# Altium footprint library 2019-06-30_11-57-30.PcbLib: 3 footprints
Each footprint in its own frame and in the unit in brackets; x right, y up, seen from the top. Pads: shape width x height; smd on the part's side, far side on the other; paste and mask are expansions set on the pad; w line width, h text height; cw(c..) or ccw(c..) is an arc to the next point about the centre after c.
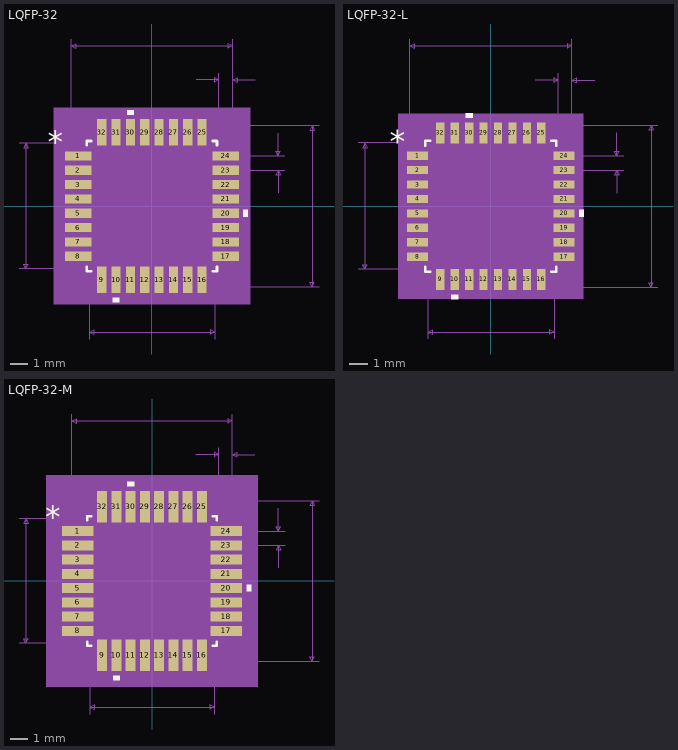
[diagram p0: the footprints below, top view; thin cyan lines are the x and y axes]

## LQFP-32 [mil]
pads (32):
  rect 58x20 smd paste+0 mask+0: 1(-162,110.24) 2(-162,78.74) 3(-162,47.24) 4(-162,15.75) 5(-162,-15.75) 6(-162,-47.24) 7(-162,-78.74) 8(-162,-110.24) 17(162,-110.24) 18(162,-78.74) 19(162,-47.24) 20(162,-15.75) 21(162,15.75) 22(162,47.24) 23(162,78.74) 24(162,110.24)
  rect 20x58 smd paste+0 mask+0: 9(-110.24,-162) 10(-78.74,-162) 11(-47.24,-162) 12(-15.75,-162) 13(15.75,-162) 14(47.24,-162) 15(78.74,-162) 16(110.24,-162) 25(110.24,162) 26(78.74,162) 27(47.24,162) 28(15.75,162) 29(-15.75,162) 30(-47.24,162) 31(-78.74,162) 32(-110.24,162)
Top Overlay:
  region: -71.24,-201 -86.24,-201 -86.24,-211 -71.24,-211
  region: 201,-8.25 211,-8.25 211,-23.25 201,-23.25
  region: -39.74,201 -54.74,201 -54.74,211 -39.74,211
  lines w6: -143,-133.34 -143,-143 -133.34,-143 ; -143,133.34 -143,143 -133.34,143 ; 133.34,-143 143,-143 143,-133.34 ; 133.34,143 143,143 143,133.34
  text "*" at -228.5,115.98 h50
Mechanical 5:
  region: 216,-216 -216,-216 -216,216 216,216
Mechanical 7:
  lines w1: -292,-138 -110.24,-138 ; -292,138 -110.24,138 ; -177,110.24 -177,367 ; -138,-292 -138,-110.24 ; 97,277 147,277 ; 110.24,-177 367,-177 ; 110.24,177 367,177 ; 138,-292 138,-110.24 ; 147,110.24 147,292 ; 162,78.74 292,78.74 ; 162,110.24 292,110.24 ; 177,292 177,110.24 177,367 ; 227,277 177,277 ; 277,28.74 277,78.74 ; 277,160.24 277,110.24 ; -277,-138 -277,138 ; -277,-138 -282,-128 -272,-128 -277,-138 ; -277,138 -282,128 -272,128 -277,138 ; -177,352 177,352 ; -177,352 -167,357 -167,347 -177,352 ; -138,-277 138,-277 ; -138,-277 -128,-272 -128,-282 -138,-277 ; 138,-277 128,-272 128,-282 138,-277 ; 147,277 137,282 137,272 147,277 ; 177,277 187,282 187,272 177,277 ; 177,352 167,357 167,347 177,352 ; 277,78.74 272,68.74 282,68.74 277,78.74 ; 277,110.24 272,120.24 282,120.24 277,110.24 ; 352,-177 352,177 ; 352,-177 347,-167 357,-167 352,-177 ; 352,177 347,167 357,167 352,177
  text "Default Horiz Padstyle: RX20Y58D0T" at -425,-427 h50
  text "Default Vert Padstyle: RX20Y58D0T" at -412.5,-487 h50
  text "Alt 1 Padstyle: OX60Y90D30P" at -337.5,-667 h50
  text "Alt 2 Padstyle: OX90Y60D30P" at -337.5,-727 h50
  text "0.031in/0.8mm" at 297,81.99 h25
  text "0.03in/0.762mm" at 74.5,297 h25
  text "0.354in/8.992mm" at -93.75,372 h25
  text "0.276in/7.01mm" at -87.5,-322 h25
  text "0.276in/7.01mm" at -472,-12.5 h25
  text "0.354in/8.992mm" at 372,-12.5 h25
Mechanical 13:
  lines w1: -138,88 -88,138 ; -138,-138 138,-138 ; -138,-138 -138,138 ; -138,-138 -138,-138 ; -138,138 138,138 ; -138,138 -138,138 ; 138,-138 138,-138 ; 138,-138 138,138 ; 138,138 138,138 ; -177,-119.24 -177,-101.24 -138,-101.24 -138,-119.24 -177,-119.24 ; -177,-87.74 -177,-69.74 -138,-69.74 -138,-87.74 -177,-87.74 ; -177,-56.24 -177,-38.24 -138,-38.24 -138,-56.24 -177,-56.24 ; -177,-24.75 -177,-6.75 -138,-6.75 -138,-24.75 -177,-24.75 ; -177,6.75 -177,24.75 -138,24.75 -138,6.75 -177,6.75 ; -177,38.24 -177,56.24 -138,56.24 -138,38.24 -177,38.24 ; -177,69.74 -177,87.74 -138,87.74 -138,69.74 -177,69.74 ; -177,101.24 -177,119.24 -138,119.24 -138,101.24 -177,101.24 ; -119.24,-177 -119.24,-138 -101.24,-138 -101.24,-177 -119.24,-177 ; -119.24,138 -101.24,138 -101.24,177 -119.24,177 -119.24,138 ; -87.74,-177 -87.74,-138 -69.74,-138 -69.74,-177 -87.74,-177 ; -87.74,138 -69.74,138 -69.74,177 -87.74,177 -87.74,138 ; -56.24,-177 -56.24,-138 -38.24,-138 -38.24,-177 -56.24,-177 ; -56.24,138 -38.24,138 -38.24,177 -56.24,177 -56.24,138 ; -24.75,-177 -24.75,-138 -6.75,-138 -6.75,-177 -24.75,-177 ; -24.75,138 -6.75,138 -6.75,177 -24.75,177 -24.75,138 ; 6.75,-177 6.75,-138 24.75,-138 24.75,-177 6.75,-177 ; 6.75,138 24.75,138 24.75,177 6.75,177 6.75,138 ; 38.24,-177 38.24,-138 56.24,-138 56.24,-177 38.24,-177 ; 38.24,138 56.24,138 56.24,177 38.24,177 38.24,138 ; 69.74,-177 69.74,-138 87.74,-138 87.74,-177 69.74,-177 ; 69.74,138 87.74,138 87.74,177 69.74,177 69.74,138 ; 101.24,-177 101.24,-138 119.24,-138 119.24,-177 101.24,-177 ; 101.24,138 119.24,138 119.24,177 101.24,177 101.24,138 ; 138,-119.24 138,-101.24 177,-101.24 177,-119.24 138,-119.24 ; 138,-87.74 138,-69.74 177,-69.74 177,-87.74 138,-87.74 ; 138,-56.24 138,-38.24 177,-38.24 177,-56.24 138,-56.24 ; 138,-24.75 138,-6.75 177,-6.75 177,-24.75 138,-24.75 ; 138,6.75 138,24.75 177,24.75 177,6.75 138,6.75 ; 138,38.24 138,56.24 177,56.24 177,38.24 138,38.24 ; 138,69.74 138,87.74 177,87.74 177,69.74 138,69.74 ; 138,101.24 138,119.24 177,119.24 177,101.24 138,101.24
  text "*" at -135.5,100.98 h50
Mechanical 15:
  region: -130.24,-148 -148,-148 -148,-130.24 -201,-130.24 -201,130.24 -148,130.24 -148,148 -130.24,148 -130.24,201 130.24,201 130.24,148 148,148 148,130.24 201,130.24 201,-130.24 148,-130.24 148,-148 130.24,-148 130.24,-201 -130.24,-201
  lines w6: -201,-130.24 -148,-130.24 -148,-148 -130.24,-148 -130.24,-201 130.24,-201 130.24,-148 148,-148 148,-130.24 201,-130.24 201,130.24 148,130.24 148,148 130.24,148 130.24,201 -130.24,201 -130.24,148 -148,148 -148,130.24 -201,130.24 -201,-130.24
3D body: height 10, standoff 0, extent 0,0 10,10

## LQFP-32-L [mil]
pads (32):
  rect 46x18 smd paste+0 mask+0: 1(-160,110.24) 2(-160,78.74) 3(-160,47.24) 4(-160,15.75) 5(-160,-15.75) 6(-160,-47.24) 7(-160,-78.74) 8(-160,-110.24) 17(160,-110.24) 18(160,-78.74) 19(160,-47.24) 20(160,-15.75) 21(160,15.75) 22(160,47.24) 23(160,78.74) 24(160,110.24)
  rect 18x46 smd paste+0 mask+0: 9(-110.24,-160) 10(-78.74,-160) 11(-47.24,-160) 12(-15.75,-160) 13(15.75,-160) 14(47.24,-160) 15(78.74,-160) 16(110.24,-160) 25(110.24,160) 26(78.74,160) 27(47.24,160) 28(15.75,160) 29(-15.75,160) 30(-47.24,160) 31(-78.74,160) 32(-110.24,160)
Top Overlay:
  region: -71.24,-193 -86.24,-193 -86.24,-203 -71.24,-203
  region: 193,-8.25 203,-8.25 203,-23.25 193,-23.25
  region: -39.74,193 -54.74,193 -54.74,203 -39.74,203
  lines w6: -143,-132.34 -143,-143 -132.34,-143 ; -143,132.34 -143,143 -132.34,143 ; 132.34,-143 143,-143 143,-132.34 ; 132.34,143 143,143 143,132.34
  text "*" at -220.5,115.98 h50
Mechanical 5:
  region: 202,-202 -202,-202 -202,202 202,202
Mechanical 7:
  lines w1: -290,-138 -110.24,-138 ; -290,138 -110.24,138 ; -177,110.24 -177,365 ; -138,-290 -138,-110.24 ; 97,275 147,275 ; 110.24,-177 365,-177 ; 110.24,177 365,177 ; 138,-290 138,-110.24 ; 147,110.24 147,290 ; 160,78.74 290,78.74 ; 160,110.24 290,110.24 ; 177,290 177,110.24 177,365 ; 227,275 177,275 ; 275,28.74 275,78.74 ; 275,160.24 275,110.24 ; -275,-138 -275,138 ; -275,-138 -280,-128 -270,-128 -275,-138 ; -275,138 -280,128 -270,128 -275,138 ; -177,350 177,350 ; -177,350 -167,355 -167,345 -177,350 ; -138,-275 138,-275 ; -138,-275 -128,-270 -128,-280 -138,-275 ; 138,-275 128,-270 128,-280 138,-275 ; 147,275 137,280 137,270 147,275 ; 177,275 187,280 187,270 177,275 ; 177,350 167,355 167,345 177,350 ; 275,78.74 270,68.74 280,68.74 275,78.74 ; 275,110.24 270,120.24 280,120.24 275,110.24 ; 350,-177 350,177 ; 350,-177 345,-167 355,-167 350,-177 ; 350,177 345,167 355,167 350,177
  text "Default Horiz Padstyle: RX18Y46D0T" at -425,-425 h50
  text "Default Vert Padstyle: RX18Y46D0T" at -412.5,-485 h50
  text "Alt 1 Padstyle: OX60Y90D30P" at -337.5,-665 h50
  text "Alt 2 Padstyle: OX90Y60D30P" at -337.5,-725 h50
  text "0.031in/0.8mm" at 295,81.99 h25
  text "0.03in/0.762mm" at 74.5,295 h25
  text "0.354in/8.992mm" at -93.75,370 h25
  text "0.276in/7.01mm" at -87.5,-320 h25
  text "0.276in/7.01mm" at -470,-12.5 h25
  text "0.354in/8.992mm" at 370,-12.5 h25
Mechanical 13:
  lines w1: -138,88 -88,138 ; -138,-138 138,-138 ; -138,-138 -138,138 ; -138,-138 -138,-138 ; -138,138 138,138 ; -138,138 -138,138 ; 138,-138 138,-138 ; 138,-138 138,138 ; 138,138 138,138 ; -177,-119.24 -177,-101.24 -138,-101.24 -138,-119.24 -177,-119.24 ; -177,-87.74 -177,-69.74 -138,-69.74 -138,-87.74 -177,-87.74 ; -177,-56.24 -177,-38.24 -138,-38.24 -138,-56.24 -177,-56.24 ; -177,-24.75 -177,-6.75 -138,-6.75 -138,-24.75 -177,-24.75 ; -177,6.75 -177,24.75 -138,24.75 -138,6.75 -177,6.75 ; -177,38.24 -177,56.24 -138,56.24 -138,38.24 -177,38.24 ; -177,69.74 -177,87.74 -138,87.74 -138,69.74 -177,69.74 ; -177,101.24 -177,119.24 -138,119.24 -138,101.24 -177,101.24 ; -119.24,-177 -119.24,-138 -101.24,-138 -101.24,-177 -119.24,-177 ; -119.24,138 -101.24,138 -101.24,177 -119.24,177 -119.24,138 ; -87.74,-177 -87.74,-138 -69.74,-138 -69.74,-177 -87.74,-177 ; -87.74,138 -69.74,138 -69.74,177 -87.74,177 -87.74,138 ; -56.24,-177 -56.24,-138 -38.24,-138 -38.24,-177 -56.24,-177 ; -56.24,138 -38.24,138 -38.24,177 -56.24,177 -56.24,138 ; -24.75,-177 -24.75,-138 -6.75,-138 -6.75,-177 -24.75,-177 ; -24.75,138 -6.75,138 -6.75,177 -24.75,177 -24.75,138 ; 6.75,-177 6.75,-138 24.75,-138 24.75,-177 6.75,-177 ; 6.75,138 24.75,138 24.75,177 6.75,177 6.75,138 ; 38.24,-177 38.24,-138 56.24,-138 56.24,-177 38.24,-177 ; 38.24,138 56.24,138 56.24,177 38.24,177 38.24,138 ; 69.74,-177 69.74,-138 87.74,-138 87.74,-177 69.74,-177 ; 69.74,138 87.74,138 87.74,177 69.74,177 69.74,138 ; 101.24,-177 101.24,-138 119.24,-138 119.24,-177 101.24,-177 ; 101.24,138 119.24,138 119.24,177 101.24,177 101.24,138 ; 138,-119.24 138,-101.24 177,-101.24 177,-119.24 138,-119.24 ; 138,-87.74 138,-69.74 177,-69.74 177,-87.74 138,-87.74 ; 138,-56.24 138,-38.24 177,-38.24 177,-56.24 138,-56.24 ; 138,-24.75 138,-6.75 177,-6.75 177,-24.75 138,-24.75 ; 138,6.75 138,24.75 177,24.75 177,6.75 138,6.75 ; 138,38.24 138,56.24 177,56.24 177,38.24 138,38.24 ; 138,69.74 138,87.74 177,87.74 177,69.74 138,69.74 ; 138,101.24 138,119.24 177,119.24 177,101.24 138,101.24
  text "*" at -135.5,100.98 h50
Mechanical 15:
  region: -123.24,-142 -142,-142 -142,-123.24 -187,-123.24 -187,123.24 -142,123.24 -142,142 -123.24,142 -123.24,187 123.24,187 123.24,142 142,142 142,123.24 187,123.24 187,-123.24 142,-123.24 142,-142 123.24,-142 123.24,-187 -123.24,-187
  lines w6: -187,-123.24 -142,-123.24 -142,-142 -123.24,-142 -123.24,-187 123.24,-187 123.24,-142 142,-142 142,-123.24 187,-123.24 187,123.24 142,123.24 142,142 123.24,142 123.24,187 -123.24,187 -123.24,142 -142,142 -142,123.24 -187,123.24 -187,-123.24
3D body: height 10, standoff 0, extent 0,0 10,10

## LQFP-32-M [mil]
pads (32):
  rect 70x22 smd paste+0 mask+0: 1(-164,110.24) 2(-164,78.74) 3(-164,47.24) 4(-164,15.75) 5(-164,-15.75) 6(-164,-47.24) 7(-164,-78.74) 8(-164,-110.24) 17(164,-110.24) 18(164,-78.74) 19(164,-47.24) 20(164,-15.75) 21(164,15.75) 22(164,47.24) 23(164,78.74) 24(164,110.24)
  rect 22x70 smd paste+0 mask+0: 9(-110.24,-164) 10(-78.74,-164) 11(-47.24,-164) 12(-15.75,-164) 13(15.75,-164) 14(47.24,-164) 15(78.74,-164) 16(110.24,-164) 25(110.24,164) 26(78.74,164) 27(47.24,164) 28(15.75,164) 29(-15.75,164) 30(-47.24,164) 31(-78.74,164) 32(-110.24,164)
Top Overlay:
  region: -71.24,-209 -86.24,-209 -86.24,-219 -71.24,-219
  region: 209,-8.25 219,-8.25 219,-23.25 209,-23.25
  region: -39.74,209 -54.74,209 -54.74,219 -39.74,219
  lines w6: -143,-134.34 -143,-143 -134.34,-143 ; -143,134.34 -143,143 -134.34,143 ; 134.34,-143 143,-143 143,-134.34 ; 134.34,143 143,143 143,134.34
  text "*" at -236.5,115.98 h50
Mechanical 5:
  region: 234,-234 -234,-234 -234,234 234,234
Mechanical 7:
  lines w1: -294,-138 -110.24,-138 ; -294,138 -110.24,138 ; -177,110.24 -177,369 ; -138,-294 -138,-110.24 ; 97,279 147,279 ; 110.24,-177 369,-177 ; 110.24,177 369,177 ; 138,-294 138,-110.24 ; 147,110.24 147,294 ; 164,78.74 294,78.74 ; 164,110.24 294,110.24 ; 177,294 177,110.24 177,369 ; 227,279 177,279 ; 279,28.74 279,78.74 ; 279,160.24 279,110.24 ; -279,-138 -279,138 ; -279,-138 -284,-128 -274,-128 -279,-138 ; -279,138 -284,128 -274,128 -279,138 ; -177,354 177,354 ; -177,354 -167,359 -167,349 -177,354 ; -138,-279 138,-279 ; -138,-279 -128,-274 -128,-284 -138,-279 ; 138,-279 128,-274 128,-284 138,-279 ; 147,279 137,284 137,274 147,279 ; 177,279 187,284 187,274 177,279 ; 177,354 167,359 167,349 177,354 ; 279,78.74 274,68.74 284,68.74 279,78.74 ; 279,110.24 274,120.24 284,120.24 279,110.24 ; 354,-177 354,177 ; 354,-177 349,-167 359,-167 354,-177 ; 354,177 349,167 359,167 354,177
  text "Default Horiz Padstyle: RX22Y70D0T" at -425,-429 h50
  text "Default Vert Padstyle: RX22Y70D0T" at -412.5,-489 h50
  text "Alt 1 Padstyle: OX60Y90D30P" at -337.5,-669 h50
  text "Alt 2 Padstyle: OX90Y60D30P" at -337.5,-729 h50
  text "0.031in/0.8mm" at 299,81.99 h25
  text "0.03in/0.762mm" at 74.5,299 h25
  text "0.354in/8.992mm" at -93.75,374 h25
  text "0.276in/7.01mm" at -87.5,-324 h25
  text "0.276in/7.01mm" at -474,-12.5 h25
  text "0.354in/8.992mm" at 374,-12.5 h25
Mechanical 13:
  lines w1: -138,88 -88,138 ; -138,-138 138,-138 ; -138,-138 -138,138 ; -138,-138 -138,-138 ; -138,138 138,138 ; -138,138 -138,138 ; 138,-138 138,-138 ; 138,-138 138,138 ; 138,138 138,138 ; -177,-119.24 -177,-101.24 -138,-101.24 -138,-119.24 -177,-119.24 ; -177,-87.74 -177,-69.74 -138,-69.74 -138,-87.74 -177,-87.74 ; -177,-56.24 -177,-38.24 -138,-38.24 -138,-56.24 -177,-56.24 ; -177,-24.75 -177,-6.75 -138,-6.75 -138,-24.75 -177,-24.75 ; -177,6.75 -177,24.75 -138,24.75 -138,6.75 -177,6.75 ; -177,38.24 -177,56.24 -138,56.24 -138,38.24 -177,38.24 ; -177,69.74 -177,87.74 -138,87.74 -138,69.74 -177,69.74 ; -177,101.24 -177,119.24 -138,119.24 -138,101.24 -177,101.24 ; -119.24,-177 -119.24,-138 -101.24,-138 -101.24,-177 -119.24,-177 ; -119.24,138 -101.24,138 -101.24,177 -119.24,177 -119.24,138 ; -87.74,-177 -87.74,-138 -69.74,-138 -69.74,-177 -87.74,-177 ; -87.74,138 -69.74,138 -69.74,177 -87.74,177 -87.74,138 ; -56.24,-177 -56.24,-138 -38.24,-138 -38.24,-177 -56.24,-177 ; -56.24,138 -38.24,138 -38.24,177 -56.24,177 -56.24,138 ; -24.75,-177 -24.75,-138 -6.75,-138 -6.75,-177 -24.75,-177 ; -24.75,138 -6.75,138 -6.75,177 -24.75,177 -24.75,138 ; 6.75,-177 6.75,-138 24.75,-138 24.75,-177 6.75,-177 ; 6.75,138 24.75,138 24.75,177 6.75,177 6.75,138 ; 38.24,-177 38.24,-138 56.24,-138 56.24,-177 38.24,-177 ; 38.24,138 56.24,138 56.24,177 38.24,177 38.24,138 ; 69.74,-177 69.74,-138 87.74,-138 87.74,-177 69.74,-177 ; 69.74,138 87.74,138 87.74,177 69.74,177 69.74,138 ; 101.24,-177 101.24,-138 119.24,-138 119.24,-177 101.24,-177 ; 101.24,138 119.24,138 119.24,177 101.24,177 101.24,138 ; 138,-119.24 138,-101.24 177,-101.24 177,-119.24 138,-119.24 ; 138,-87.74 138,-69.74 177,-69.74 177,-87.74 138,-87.74 ; 138,-56.24 138,-38.24 177,-38.24 177,-56.24 138,-56.24 ; 138,-24.75 138,-6.75 177,-6.75 177,-24.75 138,-24.75 ; 138,6.75 138,24.75 177,24.75 177,6.75 138,6.75 ; 138,38.24 138,56.24 177,56.24 177,38.24 138,38.24 ; 138,69.74 138,87.74 177,87.74 177,69.74 138,69.74 ; 138,101.24 138,119.24 177,119.24 177,101.24 138,101.24
  text "*" at -135.5,100.98 h50
Mechanical 15:
  region: -141.24,-158 -158,-158 -158,-141.24 -219,-141.24 -219,141.24 -158,141.24 -158,158 -141.24,158 -141.24,219 141.24,219 141.24,158 158,158 158,141.24 219,141.24 219,-141.24 158,-141.24 158,-158 141.24,-158 141.24,-219 -141.24,-219
  lines w6: -219,-141.24 -158,-141.24 -158,-158 -141.24,-158 -141.24,-219 141.24,-219 141.24,-158 158,-158 158,-141.24 219,-141.24 219,141.24 158,141.24 158,158 141.24,158 141.24,219 -141.24,219 -141.24,158 -158,158 -158,141.24 -219,141.24 -219,-141.24
3D body: height 10, standoff 0, extent 0,0 10,10